# EAGLE library part OPV_4X (library robo_ag)
Operationsverstärker Reichelt: MCP 6474-E/SL 2-5,5V
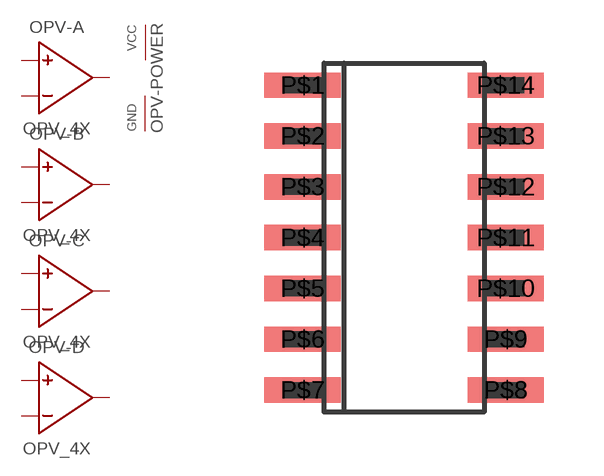
[diagram p11: symbol with the pads of IC_SOIC14; footprint IC_SOIC14]

Designator prefix OPV; gates -POWER=POWER -A=OPV -B=OPV -C=OPV -D=OPV

## OPV_4X  [IC_SOIC14]
P$1  -A:OUT  out
P$2  -A:IN-  in
P$3  -A:IN+  in
P$4  -POWER:VCC  pwr
P$5  -B:IN+  in
P$6  -B:IN-  in
P$7  -B:OUT  out
P$8  -C:OUT  out
P$9  -C:IN-  in
P$10  -C:IN+  in
P$11  -POWER:GND  pwr
P$12  -D:IN+  in
P$13  -D:IN-  in
P$14  -D:OUT  out

## Footprint IC_SOIC14 (pad centres in mm)
smd 1.905 x 0.635: P$1 -2.54,3.81; P$2 -2.54,2.54; P$3 -2.54,1.27; P$4 -2.54,0; P$5 -2.54,-1.27; P$6 -2.54,-2.54; P$7 -2.54,-3.81; P$8 2.54,-3.81; P$9 2.54,-2.54; P$10 2.54,-1.27; P$11 2.54,0; P$12 2.54,1.27; P$13 2.54,2.54; P$14 2.54,3.81